# Altium footprint library 遥控器件封装库.PcbLib: 19 footprints (part 2 of 2)
Each footprint in its own frame and in the unit in brackets; x right, y up, seen from the top. Pads: shape width x height; smd on the part's side, far side on the other; paste and mask are expansions set on the pad; w line width, h text height; cw(c..) or ccw(c..) is an arc to the next point about the centre after c.
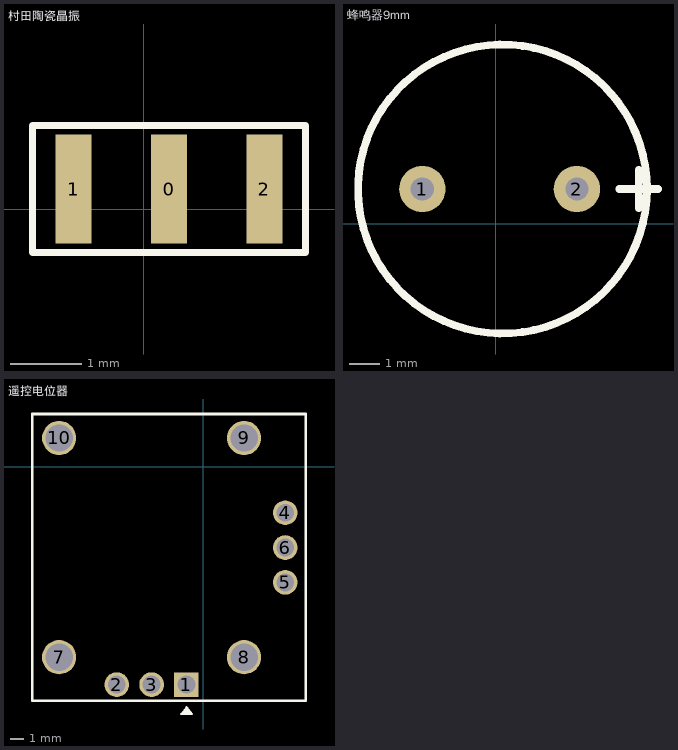
[diagram p1: the footprints below, top view; thin cyan lines are the x and y axes]

## 村田陶瓷晶振 [mil]
pads (3):
  rect 19.68x60 smd: 0(14,11.25) 1(-38.5,11.25) 2(66.5,11.25)
Top Overlay:
  lines w3.94: -61,-23.75 -61,46.25 -31,46.25 89,46.25 89,-23.75 -61,-23.75
3D body: height 35.43, standoff -0.2, extent -66.71,-18.75 94.71,40.31

## 蜂鸣器9mm [mil]
pads (2):
  round 60 hole 30: 1(-95,45) 2(105,45)
Top Overlay:
  circle w10: c8.78,45 r187.01
  lines w10: 160,45 210,45 ; 185,20 185,70

## 遥控电位器 [mm]
pads (10):
  rect 1.8x1.8 hole 1.3: 1(-1.243,-15.904)
  round 1.8 hole 1.3: 2(-6.323,-15.904) 3(-3.783,-15.904) 4(5.967,-3.364) 5(5.967,-8.444) 6(5.967,-5.904)
  round 2.5 hole 2: 7(-10.533,-13.904) 8(2.967,-13.904) 9(2.967,2.096) 10(-10.533,2.096)
Top Overlay:
  lines w0.152: -1.479,-18.051 -1.479,-17.98 -1.225,-17.726 -1.225,-17.551 ; -1.225,-17.551 -0.825,-18.051 -1.625,-18.051 -1.225,-17.551 ; -1.375,-17.926 -1,-17.926 -1.025,-17.926 -1.2,-17.751 -1.375,-17.926
  lines w0.2: -12.493,-17.079 7.467,-17.079 7.467,3.846 -12.493,3.846 -12.493,-17.079